# Altium schematic symbol library MinesROV.SchLib: 54 symbols
Pins are listed as number, name and electrical type; pins without a type are passive.

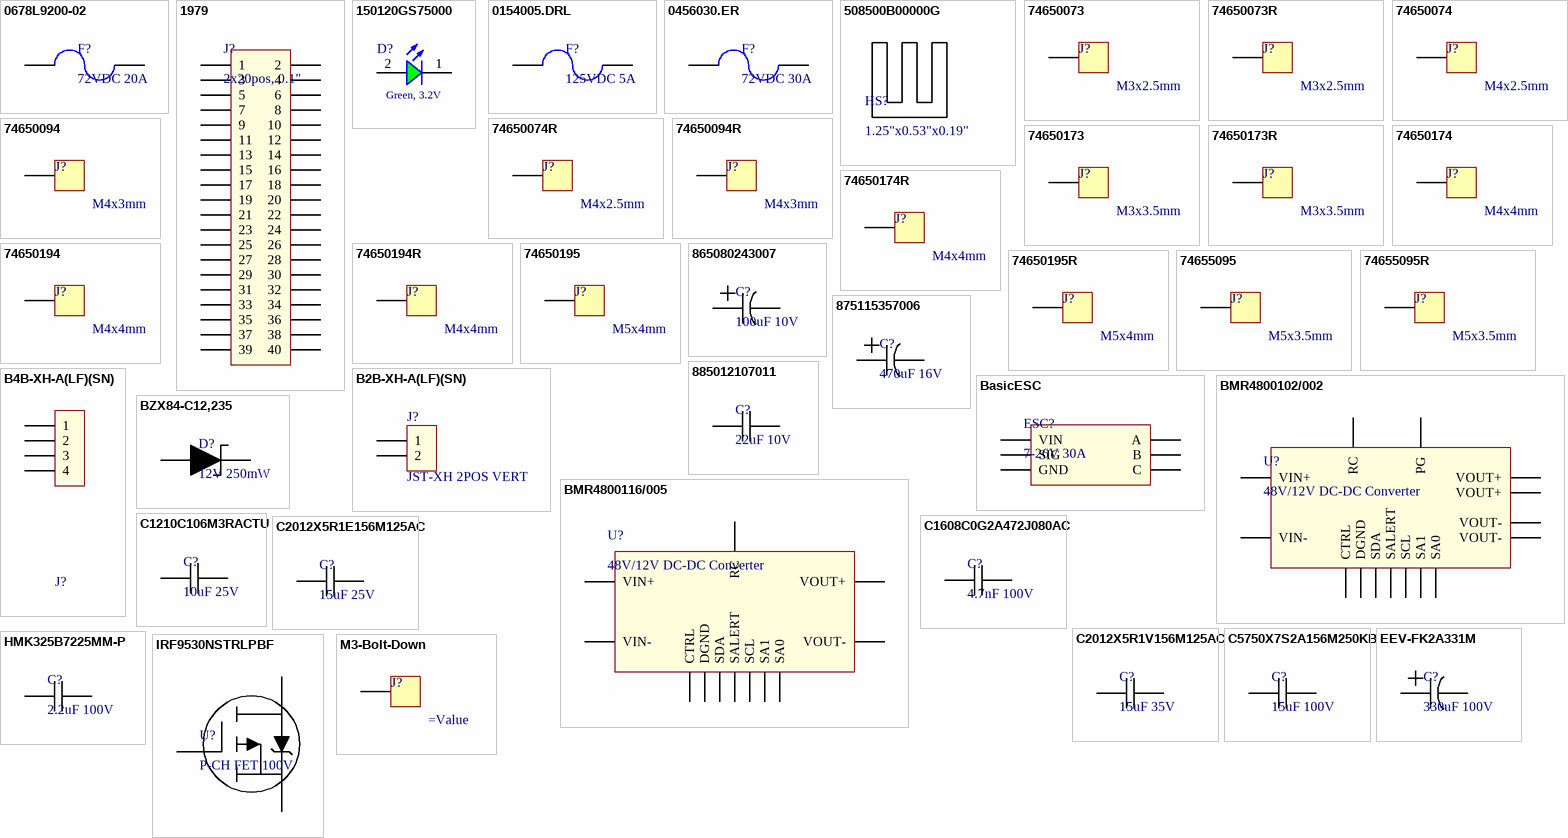
[diagram p0: symbols 0678L9200-02 to M3-Bolt-Down]

## 0678L9200-02
designator F?, comment 72VDC 20A
Bel Fuse FUSE BOARD MNT 20A 250VAC 72VDC; Part Number: 0678L9200-02; Manufacturer: Bel Fuse; Value: 72VDC 20A; ComponentLink1Description: DigiKey; ComponentLink1URL: https://www.digikey.com/en/products/detail/bel-fuse-inc/0678L9200-02/6139782
footprint 0678L9200-02 (Bel Fuse FUSE BOARD MNT 20A 250VAC 72VDC)
pins: 1, 2

## 1979
designator J?, comment 2x20pos, 0.1"
Adafruit STACKING HEADER RASPBERRY PI; Part Number: 1979; Manufacturer: Adafruit; Value: 2x20pos, 0.1"; ComponentLink1Description: DigiKey; ComponentLink1URL: https://www.digikey.com/en/products/detail/adafruit-industries-llc/1979/6238003?utm_adgroup=Accessories&utm_source=google&utm_medium=cpc&utm_campaign=Shopping_Product_Development%20Boards%2C%20Kits%2C%20Programmers_NEW&utm_term=&utm_content=Accessories&gclid=CjwKCAjwzruGBhBAEiwAUqMR8EJmk7tgiLxUlbO6Gr5x5WmlUK_tnBqJhDCD_TRLtZ5IBbXMVM3f2xoCyKwQAvD_BwE
footprint 1979 (Adafruit STACKING HEADER RASPBERRY PI)
pins: 1, 2, 3, 4, 5, 6, 7, 8, 9, 10, 11, 12, 13, 14, 15, 16, 17, 18, 19, 20, 21, 22, 23, 24, 25, 26, 27, 28, 29, 30, 31, 32, 33, 34, 35, 36, 37, 38, 39, 40

## 150120GS75000
designator D?, comment Green, 3.2V
WL-SMCW SMT Mono-color Chip LED Waterclear, size 1206, Green, 3.2V, 140deg; Part Number: 150120GS75000; Chip Technology: InGaN; Dominant Wavelength typ.: 525nm; Luminous Intensity typ.: 450mcd; Peak Wavelength typ.: 515nm; Viewing Angle: 140deg; ComponentLink1Description: Manufacturer; ComponentLink1URL: http://www.we-online.de; ComponentLink2URL: https://www.we-online.com/catalog/datasheet/150120GS75000.pdf; ComponentLink2Description: Datasheet; Forward Voltage typ.: 3.2V; Emitting Color: Green; Mounting Technology: SMT; Operating Temperature: -40 to +85degC; Published Date: December 2019; Packaging: Tape and Reel; Size: 1206; Publisher: Wurth Elektronik
footprint WL-SMCW_1206 (SMD Mono-color Chip LED, body 3.2x1.6mm)
pins: 1 K, 2 A

## 0154005.DRL
designator F?, comment 125VDC 5A
Littelfuse FUSE BRD MNT 5A 125VAC/VDC 2SMD; Part Number: 0456030.ER0154005.DRL; Manufacturer: Littelfuse; Value: 125VDC 5A; ComponentLink1Description: DigiKey; ComponentLink1URL: https://www.digikey.com/en/products/detail/littelfuse-inc/0154005-DRL/2520370
footprint 0154005.DRL (Littelfuse FUSE BRD MNT 5A 125VAC/VDC 2SMD)
pins: 1, 2

## 0456030.ER
designator F?, comment 72VDC 30A
Littelfuse FUSE BOARD MNT 30A 125VAC 72VDC; Part Number: 0456030.ER; Manufacturer: Littelfuse; Value: 72VDC 30A; ComponentLink1Description: DigiKey; ComponentLink1URL: https://www.digikey.com/en/products/detail/littelfuse-inc/0456030-ER/1754635
footprint 0456030.ER (Littelfuse FUSE BOARD MNT 30A 125VAC 72VDC)
pins: 1, 2

## 508500B00000G
designator HS?, comment 1.25"x0.53"x0.19"
AAVID HEATSINK 24-PIN DIP GLUE-ON BLK; Manufacturer: Aavid, Thermal Division of Boyd Corporation; Part Number: 508500B00000G; Value: 1.25"x0.53"x0.19"; ComponentLink1Description: DigiKey; ComponentLink1URL: https://www.digikey.com/en/products/detail/aavid-thermal-division-of-boyd-corporation/508500B00000G/373762
footprint 508500B00000G

## 74650073
designator J?, comment M3x2.5mm
Wurth WP-THRBU REDCUBE THR internal through-hole thread, 7x7mm, M3x2.5mm, 4 pins, 50A; Part Number: 74650073; Manufacturer: Wurth Elektronik; Pin Number: 4; Thread: M3; Surface: Tin; Thread Length: 2.5mm; ComponentLink1Description: Manufacturer; ComponentLink1URL: http://www.we-online.de; ComponentLink2Description: Datasheet; ComponentLink2URL: https://katalog.we-online.com/em/datasheet/74650073.pdf; Operating Temperature: -55 to +150degC; Height: 3mm; Material: Brass; Packaging: Bulk; Mounting Technology: SMT; Rated Current: 50A; Publisher: Wurth Elektronik; Published Date: September 2019; Size: 7x7mm; Value: M3x2.5mm
footprint 74650073
pins: 1

## 74650073R
designator J?, comment M3x2.5mm
Wurth WP-THRBU REDCUBE THR internal through-hole thread, 7x7mm, M3x2.5mm, 4 pins, 50A; Part Number: 74650073R; Manufacturer: Wurth Elektronik; Pin Number: 4; Thread: M3; Surface: Tin; Thread Length: 2.5mm; ComponentLink1Description: Manufacturer; ComponentLink1URL: http://www.we-online.de; ComponentLink2Description: Datasheet; ComponentLink2URL: https://katalog.we-online.com/em/datasheet/74650073R.pdf; Operating Temperature: -55 to +150degC; Height: 3mm; Material: Brass; Packaging: Tape and Reel; Mounting Technology: SMT; Rated Current: 50A; Publisher: Wurth Elektronik; Published Date: September 2019; Size: 7x7mm; Value: M3x2.5mm
footprint 74650073 (REDCUBE THR with internal thread, M3x2.5mm, through)
pins: 1

## 74650074
designator J?, comment M4x2.5mm
Wurth WP-THRBU REDCUBE THR internal through-hole thread, 7x7mm, M4x2.5mm, 4 pins, 50A; Part Number: 74650074; Manufacturer: Wurth Elektronic; Pin Number: 4; Thread: M4; Surface: Tin; Thread Length: 2.5mm; ComponentLink1Description: Manufacturer; ComponentLink1URL: http://www.we-online.de; ComponentLink2Description: Datasheet; ComponentLink2URL: https://katalog.we-online.com/em/datasheet/74650074.pdf; Operating Temperature: -55 to +150degC; Height: 3mm; Material: Brass; Packaging: Bulk; Mounting Technology: SMT; Rated Current: 50A; Publisher: Wurth Elektronik; Published Date: September 2019; Size: 7x7mm; Value: M4x2.5mm
footprint 74650074
pins: 1

## 74650074R
designator J?, comment M4x2.5mm
Wurth WP-THRBU REDCUBE THR internal through-hole thread, 7x7mm, M4x2.5mm, 4 pins, 50A; Part Number: 74650074R; Manufacturer: Wurth Elektronik; Pin Number: 4; Thread: M4; Surface: Tin; Thread Length: 2.5mm; ComponentLink1Description: Manufacturer; ComponentLink1URL: http://www.we-online.de; ComponentLink2Description: Datasheet; ComponentLink2URL: https://katalog.we-online.com/em/datasheet/74650074R.pdf; Operating Temperature: -55 to +150degC; Height: 3mm; Material: Brass; Packaging: Tape and Reel; Mounting Technology: SMT; Rated Current: 50A; Publisher: Wurth Elektronik; Published Date: September 2019; Size: 7x7mm; Value: M4x2.5mm
footprint 74650074 (REDCUBE THR with internal thread, M4x2.5mm, through)
pins: 1

## 74650094
designator J?, comment M4x3mm
Wurth WP-THRBU REDCUBE THR internal through-hole thread, 10x10mm, M4x3mm, 8 pins, 85A; Part Number: 74650094; Manufacturer: Wurth Elektronik; Pin Number: 8; Thread: M4; Surface: Tin; Thread Length: 3mm; ComponentLink1Description: Manufacturer; ComponentLink1URL: http://www.we-online.de; ComponentLink2Description: Datasheet; ComponentLink2URL: https://katalog.we-online.com/em/datasheet/74650094.pdf; Operating Temperature: -55 to +150degC; Height: 3.5mm; Material: Brass; Packaging: Bulk; Mounting Technology: SMT; Rated Current: 85A; Publisher: Wurth Elektronik; Published Date: September 2019; Size: 10x10mm; Value: M4x3mm
footprint 74650094
pins: 1

## 74650094R
designator J?, comment M4x3mm
Wurth WP-THRBU REDCUBE THR internal through-hole thread, 10x10mm, M4x3mm, 8 pins, 85A; Part Number: 74650094R; Manufacturer: Wurth Elektronik; Pin Number: 8; Thread: M4; Surface: Tin; Thread Length: 3mm; ComponentLink1Description: Manufacturer; ComponentLink1URL: http://www.we-online.de; ComponentLink2Description: Datasheet; ComponentLink2URL: https://katalog.we-online.com/em/datasheet/74650094R.pdf; Operating Temperature: -55 to +150degC; Height: 3.5mm; Material: Brass; Packaging: Tape and Reel; Mounting Technology: SMT; Rated Current: 85A; Publisher: Wurth Elektronik; Published Date: September 2019; Size: 10x10mm; Value: M4x3mm
footprint 74650094 (REDCUBE THR with internal thread, M4x3mm, through)
pins: 1

## 74650173
designator J?, comment M3x3.5mm
Wurth WP-THRBU REDCUBE THR internal blind-hole thread, 7x7mm, M3x3.5mm, 4 pins, 50A; Part Number: 74650173; Manufacturer: Wirth Elektronik; Pin Number: 4; Thread: M3; Surface: Tin; Thread Length: 3.5mm; ComponentLink1Description: Manufacturer; ComponentLink1URL: http://www.we-online.de; ComponentLink2Description: Datasheet; ComponentLink2URL: https://katalog.we-online.com/em/datasheet/74650173.pdf; Operating Temperature: -55 to +150degC; Height: 6mm; Material: Brass; Packaging: Bulk; Mounting Technology: SMT; Rated Current: 50A; Publisher: Wurth Elektronik; Published Date: September 2019; Size: 7x7mm; Value: M3x3.5mm
footprint 74650173
pins: 1

## 74650173R
designator J?, comment M3x3.5mm
Wurth WP-THRBU REDCUBE THR internal blind-hole thread, 7x7mm, M3x3.5mm, 4 pins, 50A; Part Number: 74650173R; Manufacturer: Wurth Elektronik; Pin Number: 4; Thread: M3; Surface: Tin; Thread Length: 3.5mm; ComponentLink1Description: Manufacturer; ComponentLink1URL: http://www.we-online.de; ComponentLink2Description: Datasheet; ComponentLink2URL: https://katalog.we-online.com/em/datasheet/74650173R.pdf; Operating Temperature: -55 to +150degC; Height: 6mm; Material: Brass; Packaging: Tape and Reel; Mounting Technology: SMT; Rated Current: 50A; Publisher: Wurth Elektronik; Published Date: September 2019; Size: 7x7mm; Value: M3x3.5mm
footprint 74650173
pins: 1

## 74650174
designator J?, comment M4x4mm
Wurth WP-THRBU REDCUBE THR internal blind-hole thread, 7x7mm, M4x4mm, 4 pins, 50A; Part Number: 74650174; Manufacturer: Wurth Elektronik; Pin Number: 4; Thread: M4; Surface: Tin; Thread Length: 4mm; ComponentLink1Description: Manufacturer; ComponentLink1URL: http://www.we-online.de; ComponentLink2Description: Datasheet; ComponentLink2URL: https://katalog.we-online.com/em/datasheet/74650174.pdf; Operating Temperature: -55 to +150degC; Height: 6.5mm; Material: Brass; Packaging: Bulk; Mounting Technology: SMT; Rated Current: 50A; Publisher: Wurth Elektronik; Published Date: September 2019; Size: 7x7mm; Value: M4x4mm
footprint 74650174
pins: 1

## 74650174R
designator J?, comment M4x4mm
Wurth WP-THRBU REDCUBE THR internal blind-hole thread, 7x7mm, M4x4mm, 4 pins, 50A; Part Number: 74650174R; Manufacturer: Wurth Elektronik; Pin Number: 4; Thread: M4; Surface: Tin; Thread Length: 4mm; ComponentLink1Description: Manufacturer; ComponentLink1URL: http://www.we-online.de; ComponentLink2Description: Datasheet; ComponentLink2URL: https://katalog.we-online.com/em/datasheet/74650174R.pdf; Operating Temperature: -55 to +150degC; Height: 6.5mm; Material: Brass; Packaging: Tape and Reel; Mounting Technology: SMT; Rated Current: 50A; Publisher: Wurth Elektronik; Published Date: September 2019; Size: 7x7mm; Value: M4x4mm
footprint 74650174
pins: 1

## 74650194
designator J?, comment M4x4mm
Wurth WP-THRBU REDCUBE THR internal blind-hole thread, 10x10mm, M4x4mm, 9 pins, 85A; Part Number: 74650194; Manufacturer: Wurth Elektronik; Pin Number: 9; Thread: M4; Surface: Tin; Thread Length: 4mm; ComponentLink1Description: Manufacturer; ComponentLink1URL: http://www.we-online.de; ComponentLink2Description: Datasheet; ComponentLink2URL: https://katalog.we-online.com/em/datasheet/74650194.pdf; Operating Temperature: -55 to +150degC; Height: 7mm; Material: Brass; Packaging: Bulk; Mounting Technology: SMT; Rated Current: 85A; Publisher: Wurth Elektronik; Published Date: September 2019; Size: 10x10mm; Value: M4x4mm
footprint 74650194
pins: 1

## 74650194R
designator J?, comment M4x4mm
Wurth WP-THRBU REDCUBE THR internal blind-hole thread, 10x10mm, M4x4mm, 9 pins, 85A; Part Number: 74650194R; Manufacturer: Wurth Elektronik; Pin Number: 9; Thread: M4; Surface: Tin; Thread Length: 4mm; ComponentLink1Description: Manufacturer; ComponentLink1URL: http://www.we-online.de; ComponentLink2Description: Datasheet; ComponentLink2URL: https://katalog.we-online.com/em/datasheet/74650194R.pdf; Operating Temperature: -55 to +150degC; Height: 7mm; Material: Brass; Packaging: Tape and Reel; Mounting Technology: SMT; Rated Current: 85A; Publisher: Wurth Elektronik; Published Date: September 2019; Size: 10x10mm; Value: M4x4mm
footprint 74650194 (REDCUBE THR with internal thread, M4x4mm, blind)
pins: 1

## 74650195
designator J?, comment M5x4mm
Wurth WP-THRBU REDCUBE THR internal blind-hole thread, 10x10mm, M5x4mm, 9 pins, 85A; Part Number: 74650195; Manufacturer: Wurth Elektronik; Pin Number: 9; Thread: M5; Surface: Tin; Thread Length: 4mm; ComponentLink1Description: Manufacturer; ComponentLink1URL: http://www.we-online.de; ComponentLink2Description: Datasheet; ComponentLink2URL: https://katalog.we-online.com/em/datasheet/74650195.pdf; Operating Temperature: -55 to +150degC; Height: 7mm; Material: Brass; Packaging: Bulk; Mounting Technology: SMT; Rated Current: 85A; Publisher: Wurth Elektronik; Published Date: September 2019; Size: 10x10mm; Value: M5x4mm
footprint 74650195
pins: 1

## 74650195R
designator J?, comment M5x4mm
Wurth WP-THRBU REDCUBE THR internal blind-hole thread, 10x10mm, M5x4mm, 9 pins, 85A; Part Number: 74650195R; Manufacturer: Wurth ELektronik; Pin Number: 9; Thread: M5; Surface: Tin; Thread Length: 4mm; ComponentLink1Description: Manufacturer; ComponentLink1URL: http://www.we-online.de; ComponentLink2Description: Datasheet; ComponentLink2URL: https://katalog.we-online.com/em/datasheet/74650195R.pdf; Operating Temperature: -55 to +150degC; Height: 7mm; Material: Brass; Packaging: Tape and Reel; Mounting Technology: SMT; Rated Current: 85A; Publisher: Wurth Elektronik; Published Date: September 2019; Size: 10x10mm; Value: M5x4mm
footprint 74650195
pins: 1

## 74655095
designator J?, comment M5x3.5mm
Wurth WP-THRBU REDCUBE THR internal through-hole thread, 10x10mm, M5x3.5mm, 8 pins, 85A; Part Number: 74655095; Manufacturer: Wurth Elektronik; Pin Number: 8; Thread: M5; Surface: Tin; Thread Length: 3.5mm; ComponentLink1Description: Manufacturer; ComponentLink1URL: http://www.we-online.de; ComponentLink2Description: Datasheet; ComponentLink2URL: https://katalog.we-online.com/em/datasheet/74655095.pdf; Operating Temperature: -55 to +150degC; Height: 4mm; Material: Brass; Packaging: Bulk; Mounting Technology: SMT; Rated Current: 85A; Publisher: Wurth Elektronik; Published Date: September 2019; Size: 10x10mm; Value: M5x3.5mm
footprint 74655095
pins: 1

## 74655095R
designator J?, comment M5x3.5mm
Wurth WP-THRBU REDCUBE THR internal through-hole thread, 10x10mm, M5x3.5mm, 8 pins, 85A; Part Number: 74655095R; Manufacturer: Wurth Elektronik; Pin Number: 8; Thread: M5; Surface: Tin; Thread Length: 3.5mm; ComponentLink1Description: Manufacturer; ComponentLink1URL: http://www.we-online.de; ComponentLink2Description: Datasheet; ComponentLink2URL: https://katalog.we-online.com/em/datasheet/74655095R.pdf; Operating Temperature: -55 to +150degC; Height: 4mm; Material: Brass; Packaging: Tape and Reel; Mounting Technology: SMT; Rated Current: 85A; Publisher: Wurth Elektronik; Published Date: September 2019; Size: 10x10mm; Value: M5x3.5mm
footprint 74655095 (REDCUBE THR with internal thread, M5x3.5mm, through)
pins: 1

## 865080243007
designator C?, comment 100uF 10V
Wurth CAP ALUM POLY 100UF 20% 10V SMD; Part Number: 865080243007; Manufacturer: Würth Elektronik; ComponentLink1Description: DigiKey; ComponentLink1URL: https://www.digikey.com/en/products/detail/w%C3%BCrth-elektronik/865080243007/5728085; Value: 100uF 10V
footprint 865080243007 (Wurth CAP ALUM POLY 100UF 20% 10V SMD)
pins: 1, 2

## 875115357006
designator C?, comment 470uF 16V
Wurth CAP ALUM POLY 470UF 20% 16V SMD; Part Number: 875115357006; Manufacturer: Würth Elektronik; ComponentLink1Description: DigiKey; ComponentLink1URL: https://www.digikey.com/en/products/detail/w%C3%BCrth-elektronik/875115357006/5147625?s=N4IgTCBcDaIBwHYCsBGFSDMSEAYcDYQBdAXyA; Value: 470uF 16V
footprint 875115357006 (Wurth CAP ALUM POLY 470UF 20% 16V SMD)
pins: 1, 2

## 885012107011
designator C?, comment 22uF 10V
Wurth CAP CER 22UF 10V X5R 0805; Part Number: 885012107011; Manufacturer: Würth Elektronik; Value: 22uF 10V; ComponentLink1Description: DigiKey; ComponentLink1URL: https://www.digikey.com/en/products/detail/w%C3%BCrth-elektronik/885012107011/5453476
footprint 885012107011 (Wurth CAP CER 22UF 10V X5R 0805)
pins: 1, 2

## B2B-XH-A(LF)(SN)
designator J?, comment JST-XH 2POS VERT
JST XH CONN HEADER VERT 2POS 2.5MM; Part Number: B2B-XH-A(LF)(SN); ComponentLink2Description: Datasheet; ComponentLink2URL: http://www.jst-mfg.com/product/pdf/eng/eXH.pdf?5d9b3ba19c79b; Manufacturer: JST; Value: JST-XH 2POS VERT
footprint FP-B2B-XH-A_LF_SN-MFG
pins: 1, 2

## B4B-XH-A(LF)(SN)
designator J?, comment JST-XH 4POS VERT  (value not drawn)
JST XH CONN HEADER VERT 4POS 2.5MM; Part Number: B4B-XH-A(LF)(SN); ComponentLink2Description: Datasheet; ComponentLink1URL: https://upverter.com/upn/revision/ec0bbf06de5e0de7/; ComponentLink1Description: Upverter; ComponentLink2URL: http://www.jst-mfg.com/product/pdf/eng/eXH.pdf; Manufacturer: JST; Value: JST-XH 4POS VERT
footprint JST_B4B-XH-A_LF_SN_0
pins: 1, 2, 3, 4

## BasicESC
designator ESC?, comment 7-26V 30A
Blue Robotics BasicESC; Manufacturer: Blue Robotics; Part Number: *; Value: 7-26V 30A; ComponentLink1Description: Blue Robotics; ComponentLink1URL: https://bluerobotics.com/store/thrusters/speed-controllers/besc30-r3/
footprint BasicESC
pins: A, B, C, GND, SIG, VIN

## BMR4800102/002
designator U?, comment 48V/12V DC-DC Converter
Flex Power DC DC CONVERTER 12V 900W; Manufacturer: Flex Power Modules; Part Number: BMR4800102/002; Value: 48V/12V DC-DC Converter; ComponentLink1Description: DigiKey; ComponentLink1URL: https://www.digikey.com/en/products/detail/flex-power-modules/BMR4800102-002/10287640?s=N4IgjCBcoExgHAdiqAxlAZgQwDYGcBTAGhAHsoBtEATgAZaB1EAXRIAcAXKEAVQDsAlhwDyGALIEseAK4AnAiAC%2ByoA
footprint BMR4800102/002 (Flex Power DC DC CONVERTER 12V 900W)
pins: 1 VIN+, 2 RC, 3 VIN-, 4 VOUT-, 5 VOUT-, 6 PG, 7 VOUT+, 8 VOUT+, 9 CTRL, 10 DGND, 11 SDA, 12 SALERT, 13 SCL, 14 SA1, 15 SA0

## BMR4800116/005
designator U?, comment 48V/12V DC-DC Converter
Flex Power DC DC CONVERTER 12V 1300W; Manufacturer: Flex Power Modules; Part Number: BMR4800116/005; Value: 48V/12V DC-DC Converter; ComponentLink1Description: DigiKey; ComponentLink1URL: https://www.digikey.com/en/products/detail/flex-power-modules/BMR4800116-005/10287606
footprint BMR4800116/005 (Flex Power DC DC CONVERTER 12V 1300W)
pins: 1 VIN+, 2 RC, 3 VIN-, 4 VOUT-, 7 VOUT+, 9 CTRL, 10 DGND, 11 SDA, 12 SALERT, 13 SCL, 14 SA1, 15 SA0

## BZX84-C12,235
designator D?, comment 12V 250mW
Nexperia DIODE ZENER 12V 250MW TO236AB; Part Number: BZX84-C12,235; ComponentLink1Description: DigiKey; ComponentLink1URL: https://www.digikey.com/en/products/detail/nexperia-usa-inc/BZX84-C12-235/5221767; Manufacturer: Nexperia; Value: 12V 250mW
footprint BZX84-C12,235 (Nexperia DIODE ZENER 12V 250MW TO236AB)
pins: 1, 3

## C1210C106M3RACTU
designator C?, comment 10uF 25V
KEMET CAP CER 10UF 25V X7R 1210; Part Number: C1210C106M3RACTU; Manufacturer: KEMET; Value: 10uF 25V; ComponentLink1Description: DigiKey; ComponentLink1URL: https://www.digikey.com/en/products/detail/kemet/C1210C106M3RACTU/2216507
footprint C1210C106M3RACTU (KEMET CAP CER 10UF 25V X7R 1210)
pins: 1, 2

## C1608C0G2A472J080AC
designator C?, comment 4.7nF 100V
TDK CAP CER 4700PF 100V C0G 0603; Part Number: C1608C0G2A472J080AC; Manufacturer: TDK Corporation; Value: 4.7nF 100V; ComponentLink1Description: DigiKey; ComponentLink1URL: https://www.digikey.com/en/products/detail/tdk-corporation/C1608C0G2A472J080AC/5023335
footprint C1608 Generic
pins: 1, 2

## C2012X5R1E156M125AC
designator C?, comment 15uF 25V
TDK CAP CER 15UF 25V X5R 0805; Part Number: C2012X5R1E156M125AC; Manufacturer: TDK Corporation; Value: 15uF 25V; ComponentLink1Description: New link; ComponentLink1URL: *
footprint C2012M Generic (TDK Chip Ceramic Capacitor 2012M Generic)
pins: 1, 2

## C2012X5R1V156M125AC
designator C?, comment 15uF 35V
TDK CAP CER 15UF 35V X5R 0805; Part Number: C2012X5R1V156M125AC; Manufacturer: TDK Corporation; Value: 15uF 35V; ComponentLink1Description: New link; ComponentLink1URL: *
footprint C2012M Generic (TDK Chip Ceramic Capacitor 2012M Generic)
pins: 1, 2

## C5750X7S2A156M250KB
designator C?, comment 15uF 100V
TDK CAP CER 15UF 100V X7S 2220; Part Number: C5750X7S2A156M250KB; Manufacturer: TDK Corporation; ComponentLink1Description: DigiKey; ComponentLink1URL: https://www.digikey.com/en/products/detail/tdk-corporation/C5750X7S2A156M250KB/2443522; Value: 15uF 100V
footprint C2220M Generic (TDK Chip Ceramic Cap 2220M Generic)
pins: 1, 2

## EEV-FK2A331M
designator C?, comment 330uF 100V
Panasonic CAP ALUM 330UF 20% 100V SMD; Part Number: EEV-FK2A331M; Manufacturer: Panasonic Electronic Components; ComponentLink1Description: DigiKey; ComponentLink1URL: https://www.digikey.com/en/products/detail/panasonic-electronic-components/EEV-FK2A331M/408248; Value: 330uF 100V
footprint EEV-FK2A331M (Panasonic CAP ALUM 330UF 20% 100V SMD)
pins: 1, 2

## HMK325B7225MM-P
designator C?, comment 2.2uF 100V
Taiyo Yuden CAP CER 2.2UF 100V X7R 1210; Part Number: HMK325B7225MM-P; Manufacturer: Taiyo Yuden; Value: 2.2uF 100V; ComponentLink1Description: DigiKey; ComponentLink1URL: https://www.digikey.com/en/products/detail/taiyo-yuden/HMK325B7225MM-P/7065949
footprint HMK325B7225MM-P (Taiyo Yuden CAP CER 2.2UF 100V X7R 1210)
pins: 1, 2

## IRF9530NSTRLPBF
designator U?, comment P-CH FET 100V
Infineon MOSFET P-CH 100V 14A D2PAK; Manufacturer: Infineon Technologies; Part Number: IRF9530NSTRLPBF; Value: P-CH FET 100V; ComponentLink1Description: DigiKey; ComponentLink1URL: https://www.digikey.com/en/products/detail/infineon-technologies/IRF4905STRLPBF/2440973
footprint IRF9530NSTRLPBF (Infineon MOSFET P-CH 100V 14A D2PAK)
pins: 1, 3, 4

## M3-Bolt-Down
designator J?
Generic M3 Lug Mount
footprint M3-BOLT-DOWN
pins: 1

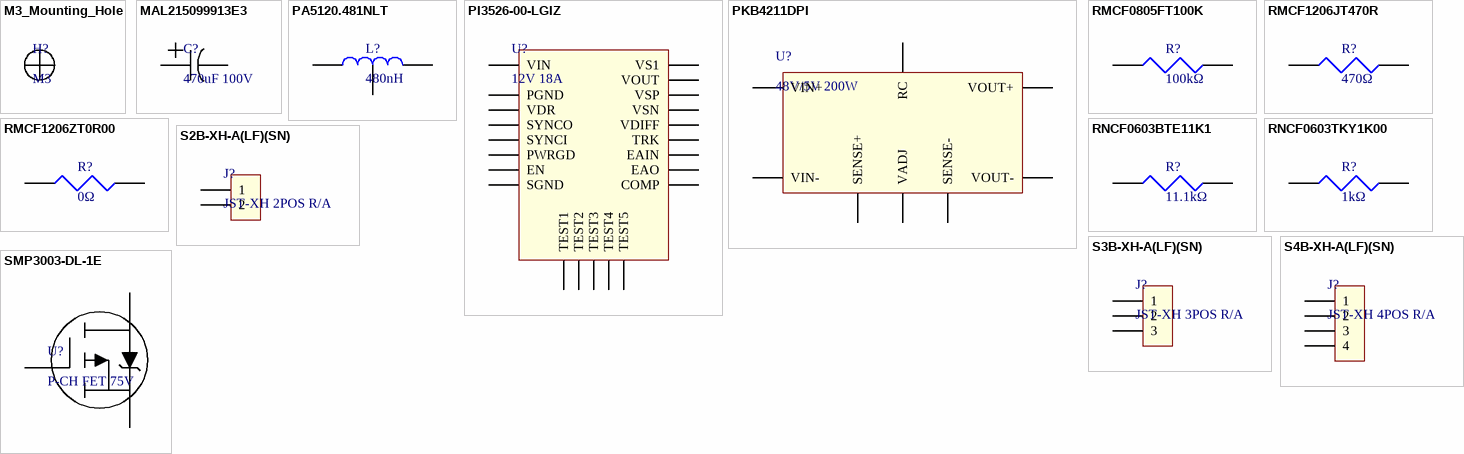
[diagram p1: symbols M3_Mounting_Hole to SMP3003-DL-1E]

## M3_Mounting_Hole
designator H?, comment M3
MECHANICAL M3 Mounting Hole
footprint M3_MOUNTING_HOLE (MECHANICAL M3 MOUNTING HOLE)
pins: 1

## MAL215099913E3
designator C?, comment 470uF 100V
Vishay CAP ALUM 470UF 20% 100V SMD; Part Number: MAL215099913E3; Manufacturer: Vishay; Value: 470uF 100V; ComponentLink1Description: DigiKey; ComponentLink1URL: https://www.digikey.com/en/products/detail/vishay-beyschlag-draloric-bc-components/MAL215099913E3/5414592
footprint MAL2150_CASE1821 (Vishay Aluminum Capacitor MAL2150 Case Code 1821)
pins: 1, 2

## PA5120.481NLT
designator L?, comment 480nH
Pulse FIXED IND 480NH 32A 1.7MOHM SMD; Manufacturer: Pulse Electronics Power; Part Number: PA5120.481NLT; Value: 480nH; ComponentLink1Description: DigiKey; ComponentLink1URL: https://www.digikey.com/en/products/detail/pulse-electronics-power/PA5120-481NLT/13236345
footprint PA5120.481NLT (Pulse FIXED IND 480NH 32A 1.7MOHM SMD)
pins: 1, 2, 3

## PI3526-00-LGIZ
designator U?, comment 12V 18A
Vicor DC DC CONVERTER 12V 18A; Manufacturer: Vicor Corporation; Part Number: PI3526-00-LGIZ; Value: 12V 18A; ComponentLink1Description: DigiKey; ComponentLink1URL: https://www.digikey.com/en/products/detail/vicor-corporation/PI3526-00-LGIZ/7319725; ComponentLink2Description: Datasheet; ComponentLink2URL: http://www.vicorpower.com/documents/datasheets/ds_PI352x-00.pdf
footprint PI3526-00-LGIZ (Vicor Power DC DC CONVERTER 12V 18A)
pins: A1 EAO, A2 EAIN, A3 VDIFF, A4 VSN, A5 VSP, B1 COMP, BLOCK1 VS1, BLOCK2 PGND, BLOCK3 VIN, BLOCK4 VOUT, BLOCK5 SGND, C1 TRK, E1 TEST5, F1 EN, G1 PWRGD, H1 TEST4, J1 TEST3, K1 TEST2, K2 TEST1, K3 SYNCO, K4 SYNCI, K5 VDR

## PKB4211DPI
designator U?, comment 48V/5V 200W
Flex Power DC DC CONVERTER 5V 200W; Manufacturer: Flex Power Modules; Part Number: PKB4211DPI; Value: 48V/5V 200W; ComponentLink1Description: DigiKey; ComponentLink1URL: https://www.digikey.com/en/products/detail/flex-power-modules/PKB4211DPI/10287630
footprint PKB4211DPI (Flex Power DC DC CONVERTER 5V 200W)
pins: 1 VIN+, 2 RC, 3 VIN-, 4 VOUT-, 5 SENSE-, 6 VADJ, 7 SENSE+, 8 VOUT+

## RMCF0805FT100K
designator R?, comment 100kΩ
Stackpole RES 100K OHM 1% 1/8W 0805; Part Number: RMCF0805FT100K; Manufacturer: Stackpole Electronics Inc; Value: 100kΩ
footprint RMCF0805 (Stackpole RMCF0805 Family)
pins: 1, 2

## RMCF1206JT470R
designator R?, comment 470Ω
Stackpole RES 470 OHM 5% 1/4W 1206; Part Number: RMCF1206JT470R; Manufacturer: Stackpole Electronics Inc; Value: 470Ω; ComponentLink1Description: DigiKey; ComponentLink1URL: https://www.digikey.com/en/products/detail/stackpole-electronics-inc/RMCF1206JT470R/1753845
footprint RMCF1206
pins: 1, 2

## RMCF1206ZT0R00
designator R?, comment 0Ω
Stackpole RES 0 OHM 1/4W 1206; Part Number: RMCF1206ZT0R00; Manufacturer: Stackpole Electronics Inc; Value: 0Ω; ComponentLink1Description: DigiKey; ComponentLink1URL: https://www.digikey.com/en/products/detail/stackpole-electronics-inc/RMCF1206ZT0R00/1756906
footprint RMCF1206
pins: 1, 2

## RNCF0603BTE11K1
designator R?, comment 11.1kΩ
Stackpole RES 11.1K OHM 0.1% 1/10W 0603; Part Number: RNCF0603BTE11K1; Manufacturer: Stackpole Electronics Inc; Value: 11.1kΩ; ComponentLink1Description: DigiKey; ComponentLink1URL: https://www.digikey.com/en/products/detail/stackpole-electronics-inc/RNCF0603BTE11K1/3198128
footprint RNCF0603 Generic (Stackpole RES)
pins: 1, 2

## RNCF0603TKY1K00
designator R?, comment 1kΩ
Stackpole RES 1K OHM 0.01% 1/10W 0603; Part Number: RNCF0603TKY1K00; Manufacturer: Stackpole Electronics Inc; Value: 1kΩ; ComponentLink1Description: DigiKey; ComponentLink1URL: https://www.digikey.com/en/products/detail/stackpole-electronics-inc/RNCF0603TKY1K00/2269697
footprint RNCF0603 Generic (Stackpole RES)
pins: 1, 2

## S2B-XH-A(LF)(SN)
designator J?, comment JST-XH 2POS R/A
JST XH CONN HEADER R/A 2POS 2.5MM; Part Number: S2B-XH-A(LF)(SN); Manufacturer: JST; Value: JST-XH 2POS R/A; ComponentLink1Description: DigiKey; ComponentLink1URL: https://www.digikey.com/en/products/detail/jst-sales-america-inc/S2B-XH-A-LF-SN/1651055
footprint S2B-XH-A(LF)(SN) (JST XH CONN HEADER R/A 2POS 2.5MM)
pins: 1, 2

## S3B-XH-A(LF)(SN)
designator J?, comment JST-XH 3POS R/A
JST XH CONN HEADER R/A 3POS 2.5MM; Part Number: S3B-XH-A(LF)(SN); Manufacturer: JST; Value: JST-XH 3POS R/A; ComponentLink1Description: DigiKey; ComponentLink1URL: https://www.digikey.com/en/products/detail/jst-sales-america-inc/S2B-XH-A-LF-SN/1651055
footprint S3B-XH-A(LF)(SN) (JST XH CONN HEADER R/A 3POS 2.5MM)
pins: 1, 2, 3

## S4B-XH-A(LF)(SN)
designator J?, comment JST-XH 4POS R/A
JST XH CONN HEADER R/A 4POS 2.5MM; Part Number: S4B-XH-A(LF)(SN); Manufacturer: JST; Value: JST-XH 4POS R/A; ComponentLink1Description: DigiKey; ComponentLink1URL: https://www.digikey.com/en/products/detail/jst-sales-america-inc/S2B-XH-A-LF-SN/1651055
footprint S4B-XH-A(LF)(SN) (JST XH CONN HEADER R/A 4POS 2.5MM)
pins: 1, 2, 3, 4

## SMP3003-DL-1E
designator U?, comment P-CH FET 75V
ON Semi MOSFET P-CH 75V 100A D2PAK; Manufacturer: ON Semiconductor; Part Number: SMP3003-DL-1E; Value: P-CH FET 75V; ComponentLink1Description: DigiKey; ComponentLink1URL: https://www.digikey.com/en/products/detail/on-semiconductor/SMP3003-DL-1E/4849083
footprint SMP3003-DL-1E (ON Semi MOSFET P-CH 75V 100A D2PAK)
pins: 1, 3, 4